# Altium schematic symbol library AIR200_200S.SchLib: 1 symbol
Pins are listed as number, name and electrical type; pins without a type are passive.

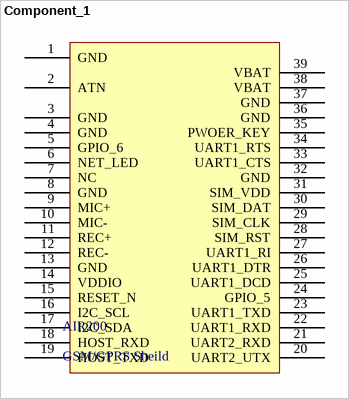
[diagram p0: symbol Component_1]

## Component_1
designator AIR200, comment GSM/GPRS Sheild
footprint PCBComponent_1
pins: 1 GND, 2 ATN, 3 GND, 4 GND, 5 GPIO_6, 6 NET_LED, 7 NC, 8 GND, 9 MIC+, 10 MIC-, 11 REC+, 12 REC-, 13 GND, 14 VDDIO, 15 RESET_N, 16 I2C_SCL, 17 I2C_SDA, 18 HOST_RXD, 19 HOST_TXD, 20 UART2_UTX, 21 UART2_RXD, 22 UART1_RXD, 23 UART1_TXD, 24 GPIO_5, 25 UART1_DCD, 26 UART1_DTR, 27 UART1_RI, 28 SIM_RST, 29 SIM_CLK, 30 SIM_DAT, 31 SIM_VDD, 32 GND, 33 UART1_CTS, 34 UART1_RTS, 35 PWOER_KEY, 36 GND, 37 GND, 38 VBAT, 39 VBAT